# EAGLE library part LCD-4.1/2-AKI-SP521P (library mylib)
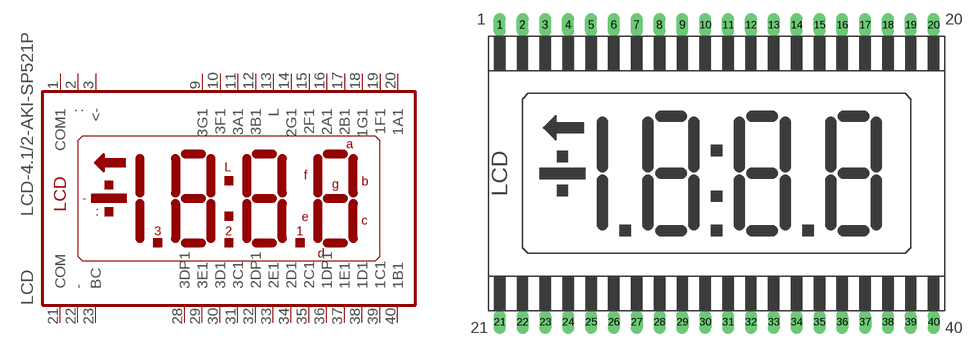
[diagram p19: symbol with the pads of LCD-4.2/1-AKI-SP521P; footprint LCD-4.2/1-AKI-SP521P]

Designator prefix LCD

## LCD-4.1/2-AKI-SP521P  [LCD-4.2/1-AKI-SP521P]
1  COM1  pas
2  :  pas
3  <-  pas
9  3G1  pas
10  3F1  pas
11  3A1  pas
12  3B1  pas
13  L  pas
14  2G1  pas
15  2F1  pas
16  2A1  pas
17  2B1  pas
18  1G1  pas
19  1F1  pas
20  1A1  pas
21  COM  pas
22  -  pas
23  BC  pas
28  3DP1  pas
29  3E1  pas
30  3D1  pas
31  3C1  pas
32  2DP1  pas
33  2E1  pas
34  2D1  pas
35  2C1  pas
36  1DP1  pas
37  1E1  pas
38  1D1  pas
39  1C1  pas
40  1B1  pas

## Footprint LCD-4.2/1-AKI-SP521P (pad centres in mm)
drill 0.813 long: 1 -24.13,16.51; 2 -21.59,16.51; 3 -19.05,16.51; 4 -16.51,16.51; 5 -13.97,16.51; 6 -11.43,16.51; 7 -8.89,16.51; 8 -6.35,16.51; 9 -3.81,16.51; 10 -1.27,16.51; 11 1.27,16.51; 12 3.81,16.51; 13 6.35,16.51; 14 8.89,16.51; 15 11.43,16.51; 16 13.97,16.51; 17 16.51,16.51; 18 19.05,16.51; 19 21.59,16.51; 20 24.13,16.51; 21 -24.13,-16.51; 22 -21.59,-16.51; 23 -19.05,-16.51; 24 -16.51,-16.51; 25 -13.97,-16.51; 26 -11.43,-16.51; 27 -8.89,-16.51; 28 -6.35,-16.51; 29 -3.81,-16.51; 30 -1.27,-16.51; 31 1.27,-16.51; 32 3.81,-16.51; 33 6.35,-16.51; 34 8.89,-16.51; 35 11.43,-16.51; 36 13.97,-16.51; 37 16.51,-16.51; 38 19.05,-16.51; 39 21.59,-16.51; 40 24.13,-16.51